# Altium schematic symbol library LTC4050.SchLib: 1 symbol
Pins are listed as number, name and electrical type; pins without a type are passive.

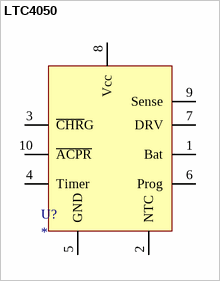
[diagram p0: symbol LTC4050]

## LTC4050
designator U?
ComponentLink1Description: datasheet; ComponentLink1URL: https://www.mouser.es/datasheet/2/609/4050f-1270300.pdf; ComponentLink2Description: mouser; ComponentLink2URL: https://www.mouser.es/ProductDetail/Analog-Devices-Inc/LTC4050EMS-42PBF?qs=sGAEpiMZZMsKEdP9slC0YV8Drf1UCZstXIZEDR4n2vo%3D
footprint Model Name (Model Description)
footprint LTC4050
pins: 1 Bat, 2 NTC, 3 ~{CHR}G, 4 Timer, 5 GND, 6 Prog, 7 DRV, 8 Vcc, 9 Sense, 10 ~{ACPR}